# Altium footprint library MODULE_NUCLEO-L476RG.PcbLib: 1 footprints
Each footprint in its own frame and in the unit in brackets; x right, y up, seen from the top. Pads: shape width x height; smd on the part's side, far side on the other; paste and mask are expansions set on the pad; w line width, h text height; cw(c..) or ccw(c..) is an arc to the next point about the centre after c.
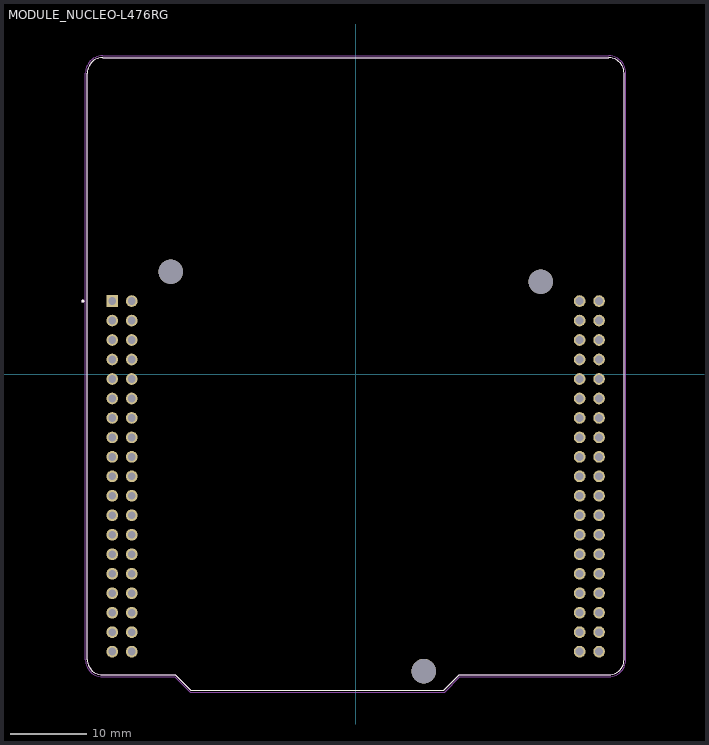
[diagram p0: the footprint, top view; thin cyan lines are the x and y axes]

## MODULE_NUCLEO-L476RG [mil]
pads (79):
  rect 60x60 / inner round 60 / far side rect 60x60 hole 40: CN7_1(-1250,374.41)
  round 60 hole 40: CN7_2(-1150,374.41) CN7_3(-1250,274.41) CN7_4(-1150,274.41) CN7_5(-1250,174.41) CN7_6(-1150,174.41) CN7_7(-1250,74.41) CN7_8(-1150,74.41) CN7_9(-1250,-25.59) CN7_10(-1150,-25.59) CN7_11(-1250,-125.59) CN7_12(-1150,-125.59) CN7_13(-1250,-225.59) CN7_14(-1150,-225.59) CN7_15(-1250,-325.59) CN7_16(-1150,-325.59) CN7_17(-1250,-425.59) CN7_18(-1150,-425.59) CN7_19(-1250,-525.59) CN7_20(-1150,-525.59) CN7_21(-1250,-625.59) CN7_22(-1150,-625.59) CN7_23(-1250,-725.59) CN7_24(-1150,-725.59) CN7_25(-1250,-825.59) CN7_26(-1150,-825.59) CN7_27(-1250,-925.59) CN7_28(-1150,-925.59) CN7_29(-1250,-1025.59) CN7_30(-1150,-1025.59) CN7_31(-1250,-1125.59) CN7_32(-1150,-1125.59) CN7_33(-1250,-1225.59) CN7_34(-1150,-1225.59) CN7_35(-1250,-1325.59) CN7_36(-1150,-1325.59) CN7_37(-1250,-1425.59) CN7_38(-1150,-1425.59) CN10_1(1150,374.41) CN10_2(1250,374.41) CN10_3(1150,274.41) CN10_4(1250,274.41) CN10_5(1150,174.41) CN10_6(1250,174.41) CN10_7(1150,74.41) CN10_8(1250,74.41) CN10_9(1150,-25.59) CN10_10(1250,-25.59) CN10_11(1150,-125.59) CN10_12(1250,-125.59) CN10_13(1150,-225.59) CN10_14(1250,-225.59) CN10_15(1150,-325.59) CN10_16(1250,-325.59) CN10_17(1150,-425.59) CN10_18(1250,-425.59) CN10_19(1150,-525.59) CN10_20(1250,-525.59) CN10_21(1150,-625.59) CN10_22(1250,-625.59) CN10_23(1150,-725.59) CN10_24(1250,-725.59) CN10_25(1150,-825.59) CN10_26(1250,-825.59) CN10_27(1150,-925.59) CN10_28(1250,-925.59) CN10_29(1150,-1025.59) CN10_30(1250,-1025.59) CN10_31(1150,-1125.59) CN10_32(1250,-1125.59) CN10_33(1150,-1225.59) CN10_34(1250,-1225.59) CN10_35(1150,-1325.59) CN10_36(1250,-1325.59) CN10_37(1150,-1425.59) CN10_38(1250,-1425.59)
  round 125.98 hole 125.98 unplated: ""(-950,524.41) ""(350,-1525.59) ""(950,474.41)
Top Overlay:
  circle w7.87: c-1400.97,374.41 r3.94
  lines w5: -1377.95,-1466.54 ccw(c-1299.21,-1466.54) -1299.21,-1545.28 -925.2,-1545.28 -846.46,-1624.02 452.76,-1624.02 531.5,-1545.28 1299.21,-1545.28 ccw(c1299.21,-1466.54) 1377.95,-1466.54 1377.95,1545.28 ccw(c1299.21,1545.28) 1299.21,1624.02 -1299.21,1624.02 ccw(c-1299.21,1545.28) -1377.95,1545.28 -1377.95,-1466.54
Mechanical 13:
  circle w7.87: c-1400.97,374.41 r3.94
  lines w5: -1377.95,-1466.54 ccw(c-1299.21,-1466.54) -1299.21,-1545.28 -925.2,-1545.28 -846.46,-1624.02 452.76,-1624.02 531.5,-1545.28 1299.21,-1545.28 ccw(c1299.21,-1466.54) 1377.95,-1466.54 1377.95,1545.28 ccw(c1299.21,1545.28) 1299.21,1624.02 -1299.21,1624.02 ccw(c-1299.21,1545.28) -1377.95,1545.28 -1377.95,-1466.54
Mechanical 15:
  lines w1.97: -1387.8,-1466.54 ccw(c-1299.21,-1466.54) -1299.21,-1555.12 -929.28,-1555.12 -850.54,-1633.86 456.83,-1633.86 535.57,-1555.12 1299.21,-1555.12 ccw(c1299.21,-1466.54) 1387.8,-1466.54 1387.8,1545.28 ccw(c1299.21,1545.28) 1299.21,1633.86 -1299.21,1633.86 ccw(c-1299.21,1545.28) -1387.8,1545.28 -1387.8,-1466.54
3D body "step_temp.STEP": height 483.46, standoff -331.5, extent -1377.95,-1624.02 1377.95,1681.1